# EAGLE library part 8PIN-PLUG (library Brendan)
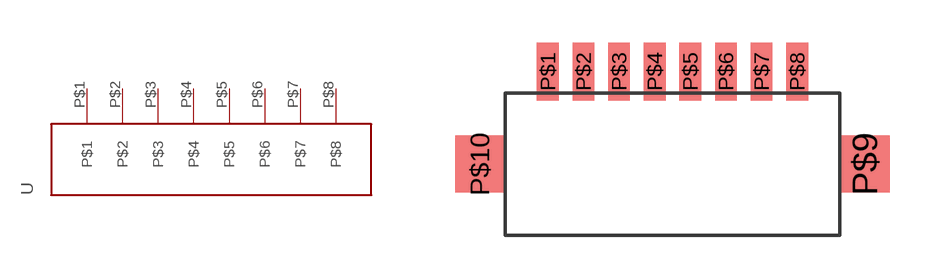
[diagram p0: symbol with the pads of 8PIN-PLUG; footprint 8PIN-PLUG]

Designator prefix -

## 8PIN-PLUG  [8PIN-PLUG]
P$1  P$1
P$2  P$2
P$3  P$3
P$4  P$4
P$5  P$5
P$6  P$6
P$7  P$7
P$8  P$8

## Footprint 8PIN-PLUG (pad centres in mm)
smd 0.762 x 2.032: P$1 -4.375,3.25; P$2 -3.125,3.25; P$3 -1.875,3.25; P$4 -0.625,3.25; P$5 0.625,3.25; P$6 1.875,3.25; P$7 3.125,3.25; P$8 4.375,3.25
smd 1.75 x 2: P$9 6.75,0; P$10 -6.75,0